# EAGLE library part SENSIRION-SHT21 (library FaBo-Mems)
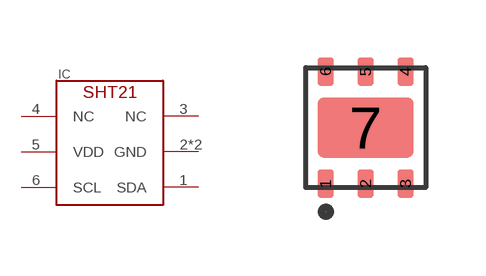
[diagram p27: symbol with the pads of SENSIRION-SHT21; footprint SENSIRION-SHT21]

Designator prefix IC

## SENSIRION-SHT21  [SENSIRION-SHT21]
1  SDA
2  GND
3  NC
4  NC
5  VDD
6  SCL
7  GND

## Footprint SENSIRION-SHT21 (pad centres in mm)
smd 0.4 x 0.7: 1 -1,-1.4; 2 0,-1.4; 3 1,-1.4; 4 1,1.4; 5 0,1.4; 6 -1,1.4
smd 2.4 x 1.5: 7 0,0